# Altium footprint library 3001.PcbLib: 1 footprints
Each footprint in its own frame and in the unit in brackets; x right, y up, seen from the top. Pads: shape width x height; smd on the part's side, far side on the other; paste and mask are expansions set on the pad; w line width, h text height; cw(c..) or ccw(c..) is an arc to the next point about the centre after c.
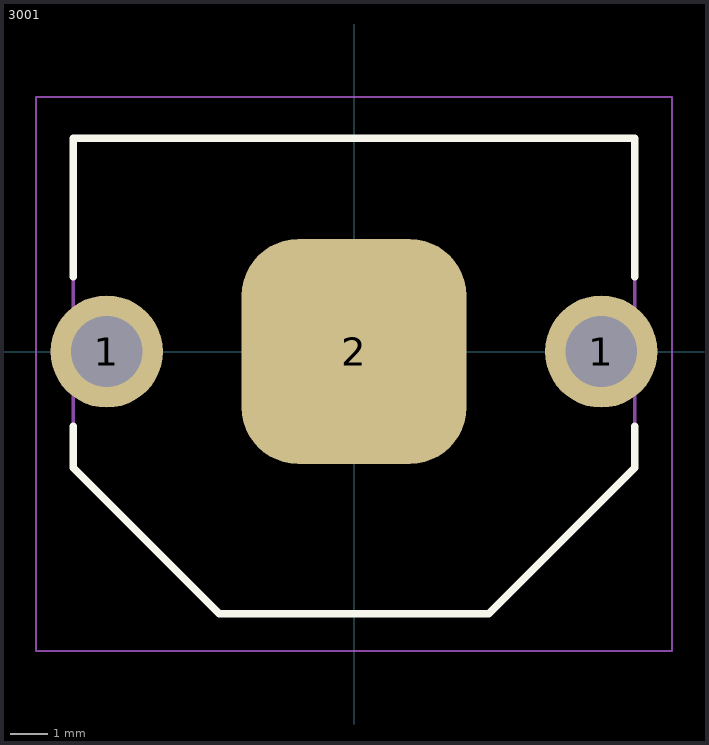
[diagram p0: the footprint, top view; thin cyan lines are the x and y axes]

## 3001 [mm] "Battery Holder, Battery Compatibility CR1225, 2 Pins"
height 3
pads (3):
  round 3 hole 1.9: 1(-6.605,0) 1(6.605,0)
  rrect50% 6x6 smd: 2(0,0)
Top Overlay:
  lines w0.2: -7.5,-2 -7.5,-3.1 -3.6,-7 3.6,-7 7.5,-3.1 7.5,-2 ; -7.5,2 -7.5,5.7 0,5.7 7.5,5.7 7.5,2 ; 7.5,-2 7.5,-2
Top Comment:
  text ".Comment" at 1,7.5 h1.2
Top Designator:
  text ".Designator" at -0.5,7.5 h1.2
Top Component Outline:
  lines w0.1: -7.5,-3.1 -7.5,5.7 0,5.7 7.5,5.7 7.5,-3.1 3.6,-7 2.5,-7 -2.5,-7 -3.6,-7 -7.5,-3.1
Top Courtyard (Mech15):
  lines w0.05: -8.5,-8 8.5,-8 8.5,6.8 -0.5,6.8 -8.5,6.8 -8.5,-8
  lines w0.1: -0.5,0 0.5,0 ; 0,-0.5 0,0.5
3D body "User Library-Keystone3001-1.STEP": height 3, standoff -2.2, extent -7.45,-6.7 7.45,5.998